# Altium schematic symbol library 2021-04-19_10-34-43.SchLib: 2 symbols
Pins are listed as number, name and electrical type; pins without a type are passive.

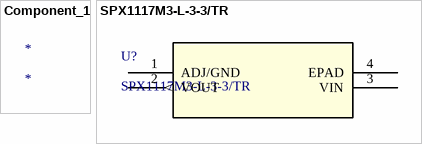
[diagram p0: symbols Component_1 to SPX1117M3-L-3-3/TR]

## Component_1
designator *

## SPX1117M3-L-3-3/TR
designator U?
No Description Available; Vendor: Max Linear; Built_By: EMA_Molly; SourceLibrary: Max_Linear_2019-12-20; Manufacturer_Part_Number: SPX1117M3-L-3-3/TR; Copyright: Copyright (C) 2018 Accelerated Designs. All rights reserved; RefDes: RefDes; Type: DEV
footprint SOT223-3_MXL
pins: 1 ADJ/GND, 2 VOUT (out), 3 VIN, 4 EPAD